# Altium schematic symbol library PW Components.SchLib: 317 symbols (part 3 of 3)
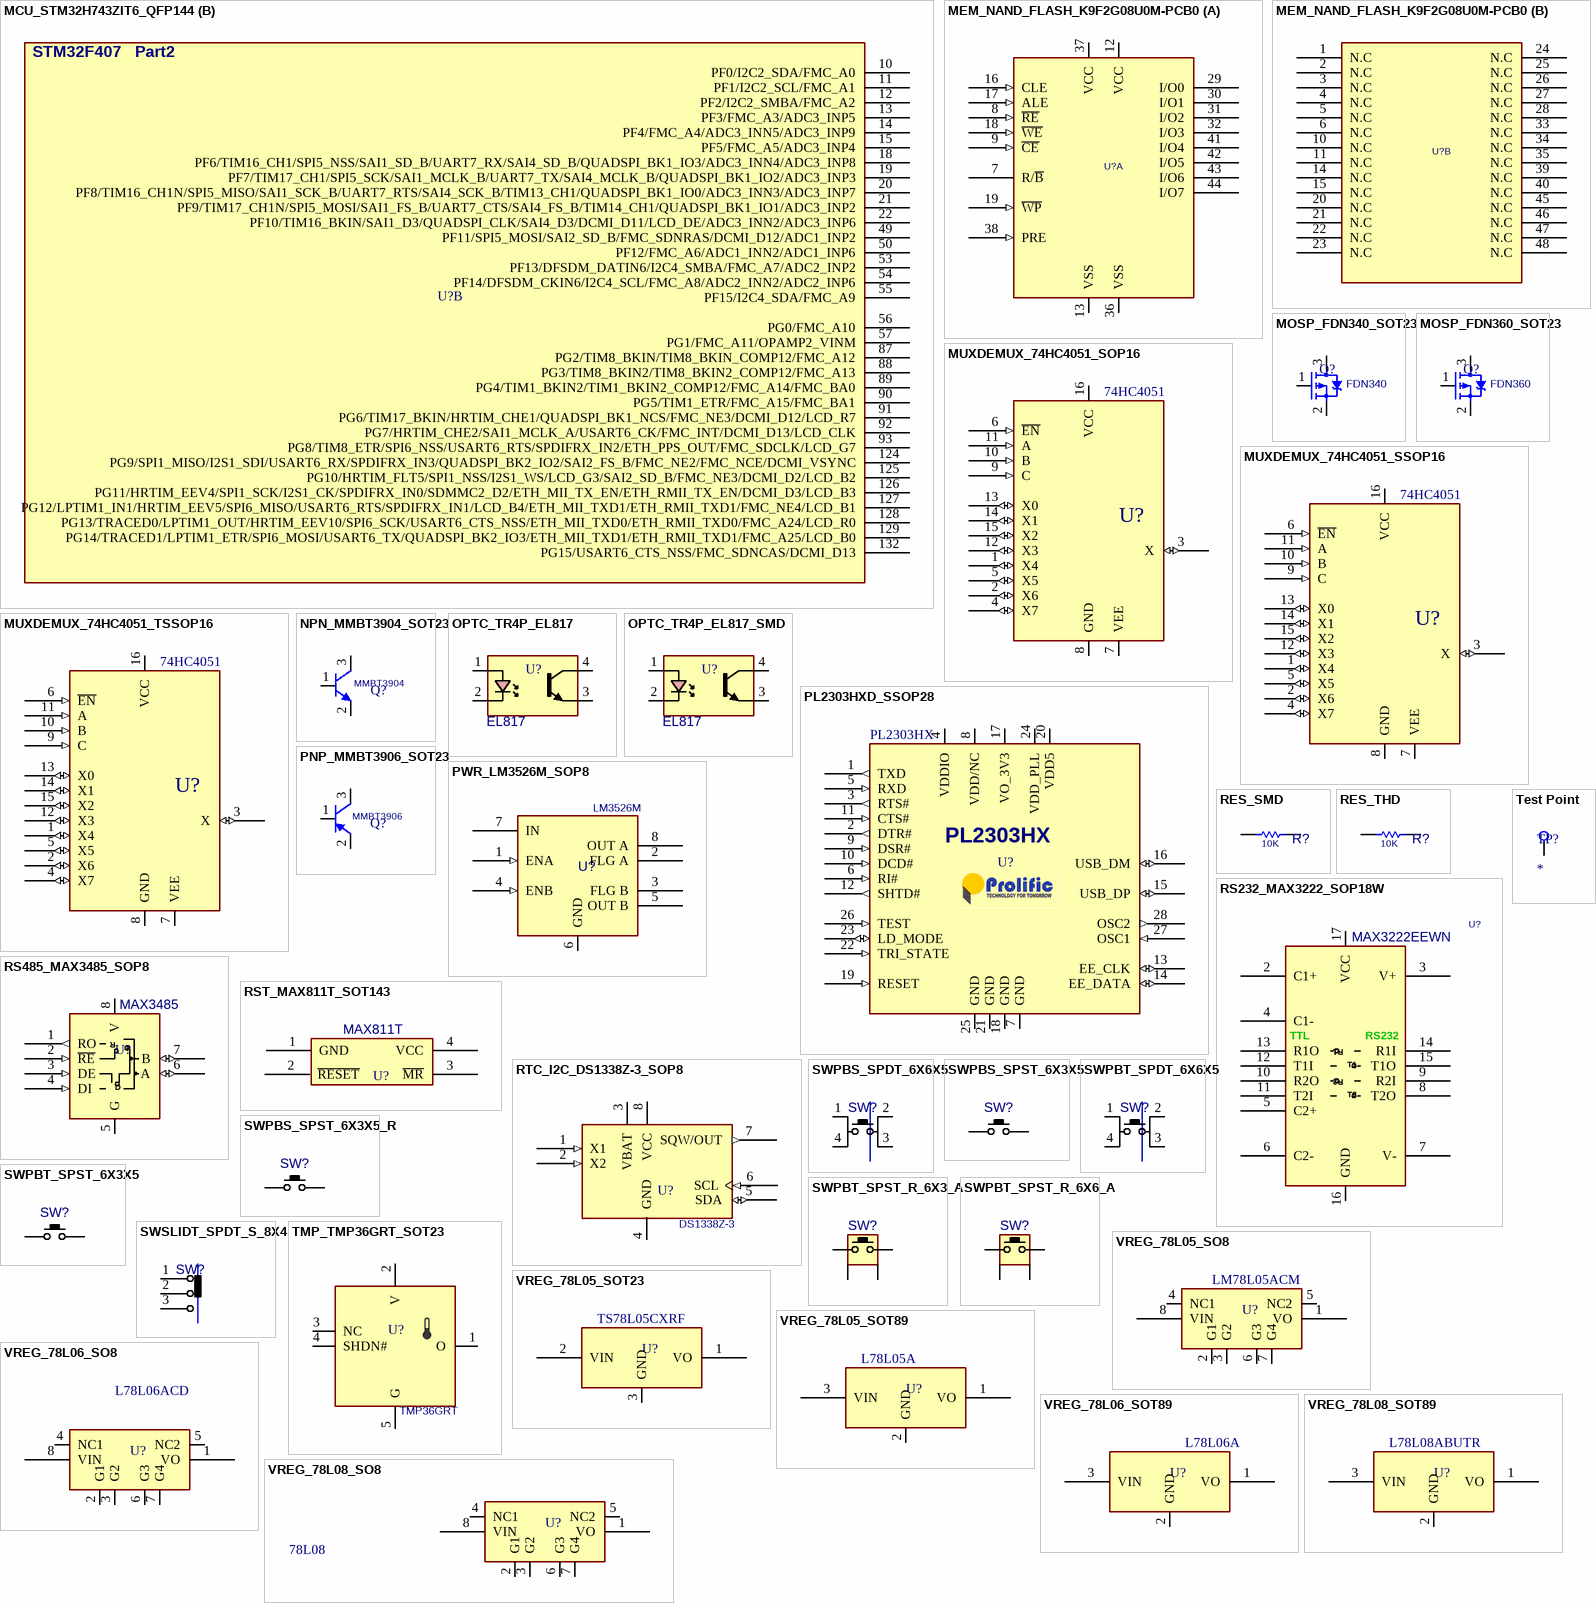
[diagram p16: symbols MCU_STM32H743ZIT6_QFP144 to VREG_78L08_SOT89]

## MCU_STM32H743ZIT6_QFP144
designator U?, comment STM32H743  (value not drawn)
MCU, STM32 ARM 32-bit, Cortex M7, 2MB FLASH, 1MB SRAM; DESC: USB_OTG HS/FS, Ethernet, 3 ADCs, DAC, CAN, I2C, SPI, UART, camera, LCD; MANF: ST; MANF_P#: STM32H743ZIT6; PARAM2: 2~3.6VCC, 400MHz, 3X16Bit 4.5MSPS ADC, 2X12Bit 1MHz DAC; PARAM: 2MB FLASH, 1MB SRAM, -40~105oC; PRICE: 23$; VALUE: STM32H743
footprint QFG50_144 (LQFP144, TQFP144, A144 (Cypress), HT144/TQ144 TQG144 (Xilinx), MS-026, MO-136(JEDEC), LQFP PGE, 20X20mm, Pitch 0.50mm, HT144, HTG144)
part A pins: 1 PE2/TRACECLK/SAI1_CK1/SPI4_SCK/SAI1_MCLK_A/SAI4_MCLK_A/QUADSPI_BK1_IO2/SAI4_CK1/ETH_MII_TXD3/FMC_A23, 2 PE3/TRACED0/TIM15_BKIN/SAI1_SD_B/SAI4_SD_B/FMC_A19, 3 PE4/TRACED1/SAI1_D2/DFSDM_DATIN3/TIM15_CH1N/SPI4_NSS/SAI1_FS_A/SAI4_FS_A/SAI4_D2/FMC_A20/DCMI_D4/LCD_B0, 4 PE5/TRACED2/SAI1_CK2/DFSDM_CKIN3/TIM15_CH1/SPI4_MISO/SAI1_SCK_A/SAI4_SCK_A/SAI4_CK2/FMC_A21/DCMI_D6/LCD_G0, 5 PE6/TRACED3/TIM1_BKIN2/SAI1_D1/TIM15_CH2/SPI4_MOSI/SAI1_SD_A/SAI4_SD_A/SAI4_D1/SAI2_MCK_B/TIM1_BKIN2_COMP12/FMC_A22/DCMI_D7/LCD_G1, 6 VBAT, 7 PC13/RTC_TAMP_1/RTC_TS/WKUP2, 8 OSC32_IN, 9 PC15/OSC32_OUT, 16 VSS, 17 VDD, 23 PH0/OSC_IN, 24 PH1/OSC_OUT, 25 NRST, 26 PC0/SAI2_FS_B/OTG_HS_ULPI_STP/FMC_SDNWE/LCD_R5/ADC123_INP10, 27 PC1/TRACED0/SAI1_D1/DFSDM_DATIN0/DFSDM_CKIN4/SPI2_MOSI/I2S2_SDO/SAI1_SD_A/SAI4_SD_A/SDMMC2_CK/SAI4_D1/ETH_MDC/MDIOS_MDC/ADC123_INN10/ADC123_INP11/RTC_TAMP_3/WKUP5, 28 DFSDM_CKIN1/SPI2_MISO/I2S2_SDI/DFSDM_CKOUT/OTG_HS_ULPI_DIR/ETH_MII_TXD2/FMC_SDNE0/ADC123_INN11/ADC123_INP12, 29 DFSDM_DATIN1/SPI2_MOSI/I2S2_SDO/OTG_HS_ULPI_NXT/ETH_MII_TX_CLK/FMC_SDCKE0/ADC12_INN12/ADC12_INP13, 30 VDD, 31 VSSA, 32 VREF+, 33 VDDA, 34 PA0/TIM2_CH1/TIM2_ETR/TIM5_CH1/TIM8_ETR/TIM15_BKIN/USART2_CTS_NSS/UART4_TX/SDMMC2_CMD/SAI2_SD_B/ETH_MII_CRS/ADC1_INP16/WKUP0, 35 PA1/TIM2_CH2/TIM5_CH2/LPTIM3_OUT/TIM15_CH1N/USART2_RTS/UART4_RX/QUADSPI_BK1_IO3/SAI2_MCK_B/ETH_MII_RX_CLK/ETH_RMII_REF_CLK/LCD_R2/ADC1_INN16/ADC1_INP17, 36 PA2/TIM2_CH3/TIM5_CH3/LPTIM4_OUT/TIM15_CH1/USART2_TX/SAI2_SCK_B/ETH_MDIO/MDIOS_MDIO/LCD_R1/ADC12_INP14/WKUP1, 37 PA3/TIM2_CH4/TIM5_CH4/LPTIM5_OUT/TIM15_CH2/USART2_RX/LCD_B2/OTG_HS_ULPI_D0/ETH_MII_COL/LCD_B5/ADC12_INP15, 38 VSS, 39 VDD, 40 PA4/TIM5_ETR/SPI1_NSS/I2S1_WS/SPI3_NSS/I2S3_WS/USART2_CK/SPI6_NSS/OTG_HS_SOF/DCMI_HSYNC/LCD_VSYNC/ADC12_INP18/DAC1_OUT1, 41 PA5/TIM2_CH1/TIM2_ETR/TIM8_CH1N/SPI1_SCK/I2S1_CK/SPI6_SCK/OTG_HS_ULPI_CK/LCD_R4/ADC12_INN18/ADC12_INP19/DAC1_OUT2, 42 PA6/TIM1_BKIN/TIM3_CH1/TIM8_BKIN/SPI1_MISO/I2S1_SDI/SPI6_MISO/TIM13_CH1/TIM8_BKIN_COMP12/MDIOS_MDC/TIM1_BKIN_COMP12/DCMI_PIXCLK/LCD_G2/ADC12_INP3, 43 PA7/TIM1_CH1N/TIM3_CH2/TIM8_CH1N/SPI1_MOSI/I2S1_SDO/SPI6_MOSI/TIM14_CH1/ETH_MII_RX_DV/ETH_RMII_CRS_DV/FMC_SDNWE/ADC12_INN3/ADC12_INP7/OPAMP1_VINM, 44 PC4/DFSDM_CKIN2/I2S1_MCK/SPDIFRX_IN2/ETH_MII_RXD0/ETH_RMII_RXD0/FMC_SDNE0/ADC12_INP4/OPAMP1_VOUT/COMP_1_INM, 45 PC5/SAI1_D3/DFSDM_DATIN2/SPDIFRX_IN3/SAI4_D3/ETH_MII_RXD1/ETH_RMII_RXD1/FMC_SDCKE0/COMP_1_OUT/ADC12_INN4/ADC12_INP8/OPAMP1_VINM, 46 PB0/TIM1_CH2N/TIM3_CH3/TIM8_CH2N/DFSDM_CKOUT/UART4_CTS/LCD_R3/OTG_HS_ULPI_D1/ETH_MII_RXD2/LCD_G1/ADC12_INN5/ADC12_INP9/OPAMP1_VINP/COMP_1_INP, 47 PB1/TIM1_CH3N/TIM3_CH4/TIM8_CH3N/DFSDM_DATIN1/LCD_R6/OTG_HS_ULPI_D2/ETH_MII_RXD3/LCD_G0/ADC12_INP5/COMP_1_INM, 48 PB2/SAI1_D1/DFSDM_CKIN1/SAI1_SD_A/SPI3_MOSI/I2S3_SDO/SAI4_SD_A/QUADSPI_CLK/SAI4_D1/COMP_1_INP/RTC_OUT, 51 VSS, 52 VDD, 58 PE7/TIM1_ETR/DFSDM_DATIN2/UART7_RX/QUADSPI_BK2_IO0/FMC_D4/FMC_DA4/OPAMP2_VOUT/COMP_2_INM, 59 PE8/TIM1_CH1N/DFSDM_CKIN2/UART7_TX/QUADSPI_BK2_IO1/FMC_D5/FMC_DA5/COMP_2_OUT/OPAMP2_VINM, 60 PE9/TIM1_CH1/DFSDM_CKOUT/UART7_RTS/QUADSPI_BK2_IO2/FMC_D6/FMC_DA6/OPAMP2_VINP/COMP_2_INP, 61 VSS, 62 VDD, 63 PE10/TIM1_CH2N/DFSDM_DATIN4/UART7_CTS/QUADSPI_BK2_IO3/FMC_D7/FMC_DA7/COMP_2_INM, 64 PE11/TIM1_CH2/DFSDM_CKIN4/SPI4_NSS/SAI2_SD_B/FMC_D8/FMC_DA8/LCD_G3/COMP_2_INP, 65 PE12/TIM1_CH3N/DFSDM_DATIN5/SPI4_SCK/SAI2_SCK_B/FMC_D9/FMC_DA9/COMP_1_OUT/LCD_B4, 66 PE13/TIM1_CH3/DFSDM_CKIN5/SPI4_MISO/SAI2_FS_B/FMC_D10/FMC_DA10/COMP_2_OUT/LCD_DE, 67 PE14/TIM1_CH4/SPI4_MOSI/SAI2_MCK_B/FMC_D11/FMC_DA11/LCD_CLK, 68 PE15/TIM1_BKIN/HDMI__TIM1_BKIN/FMC_D12/FMC_DA12/TIM1_BKIN_COMP12/LCD_R7, 69 PB10/TIM2_CH3/HRTIM_SCOUT/LPTIM2_IN1/I2C2_SCL/SPI2_SCK/I2S2_CK/DFSDM_DATIN7/USART3_TX/QUADSPI_BK1_NCS/OTG_HS_ULPI_D3/ETH_MII_RX_ER/LCD_G4, 70 PB11/TIM2_CH4/HRTIM_SCIN/LPTIM2_ETR/I2C2_SDA/DFSDM_CKIN7/USART3_RX/OTG_HS_ULPI_D4/ETH_MII_TX_EN/ETH_RMII_TX_EN/LCD_G5, 71 VCAP_1, 72 VDD, 73 PB12/TIM1_BKIN/I2C2_SMBA/SPI2_NSS/I2S2_WS/DFSDM_DATIN1/USART3_CK/FDCAN2_RX/OTG_HS_ULPI_D5/ETH_MII_TXD0/ETH_RMII_TXD0/OTG_HS_ID/TIM1_BKIN_COMP12/UART5_RX, 74 PB13/TIM1_CH1N/LPTIM2_OUT/SPI2_SCK/I2S2_CK/DFSDM_CKIN1/USART3_CTS_NSS/FDCAN2_TX/OTG_HS_ULPI_D6/ETH_MII_TXD1/ETH_RMII_TXD1/UART5_TX/OTG_HS_VBUS, 75 PB14/TIM1_CH2N/TIM12_CH1/TIM8_CH2N/USART1_TX/SPI2_MISO/I2S2_SDI/DFSDM_DATIN2/USART3_RTS/UART4_RTS/SDMMC2_D0/OTG_HS_DM, 76 PB15/RTC_REFIN/TIM1_CH3N/TIM12_CH2/TIM8_CH3N/USART1_RX/SPI2_MOSI/I2S2_SDO/DFSDM_CKIN2/UART4_CTS/SDMMC2_D1/OTG_HS_DP, 77 PD8/DFSDM_CKIN3/SAI3_SCK_B/USART3_TX/SPDIFRX_IN1/FMC_D13/FMC_DA13, 78 PD9/DFSDM_DATIN3/SAI3_SD_B/USART3_RX/FDCAN2_RXFD_MODE/FMC_D14/FMC_DA14, 79 PD10/DFSDM_CKOUT/SAI3_FS_B/USART3_CK/FDCAN2_TXFD_MODE/FMC_D15/FMC_DA15/LCD_B3, 80 PD11/LPTIM2_IN2/I2C4_SMBA/USART3_CTS_NSS/QUADSPI_BK1_IO0/SAI2_SD_A/FMC_A16, 81 PD12/LPTIM1_IN1/TIM4_CH1/LPTIM2_IN1/I2C4_SCL/USART3_RTS/QUADSPI_BK1_IO1/SAI2_FS_A/FMC_A17, 82 PD13/LPTIM1_OUT/TIM4_CH2/I2C4_SDA/QUADSPI_BK1_IO3/SAI2_SCK_A/FMC_A18, 83 VSS, 84 VDD, 85 PD14/TIM4_CH3/SAI3_MCLK_B/UART8_CTS/FMC_D0/FMC_DA0, 86 PD15/TIM4_CH4/SAI3_MCLK_A/UART8_RTS/FMC_D1/FMC_DA1, 94 VSS, 95 VDD33USB, 96 PC6/HRTIM_CHA1/TIM3_CH1/TIM8_CH1/DFSDM_CKIN3/I2S2_MCK/USART6_TX/SDMMC1_D0DIR/FMC_NWAIT/SDMMC2_D6/SDMMC1_D6/DCMI_D0/LCD_HSYNC/SWPMI_IO, 97 PC7/TRGIO/HRTIM_CHA2/TIM3_CH2/TIM8_CH2/DFSDM_DATIN3/I2S3_MCK/USART6_RX/SDMMC1_D123DIR/FMC_NE1/SDMMC2_D7/SWPMI_TX/SDMMC1_D7/DCMI_D1/LCD_G6, 98 PC8/TRACED1/HRTIM_CHB1/TIM3_CH3/TIM8_CH3/USART6_CK/UART5_RTS/FMC_NE2/FMC_NCE/SWPMI_RX/SDMMC1_D0/DCMI_D2, 99 PC9/MCO2/TIM3_CH4/TIM8_CH4/I2C3_SDA/I2S_CKIN/UART5_CTS/QUADSPI_BK1_IO0/LCD_G3/SWPMI_SUSPEND/SDMMC1_D1/DCMI_D3/LCD_B2, 100 PA8/MCO1/TIM1_CH1/HRTIM_CHB2/TIM8_BKIN2/I2C3_SCL/USART1_CK/OTG_FS_SOF/UART7_RX/TIM8_BKIN2_COMP12/LCD_B3/LCD_R6, 101 PA9/TIM1_CH2/HRTIM_CHC1/LPUART1_TX/I2C3_SMBA/SPI2_SCK/I2S2_CK/USART1_TX/FDCAN1_RXFD_MODE/DCMI_D0/LCD_R5/OTG_FS_VBUS, 102 PA10/TIM1_CH3/HRTIM_CHC2/LPUART1_RX/USART1_RX/FDCAN1_TXFD_MODE/OTG_FS_ID/MDIOS_MDIO/LCD_B4/DCMI_D1/LCD_B1, 103 PA11/TIM1_CH4/HRTIM_CHD1/LPUART1_CTS/SPI2_NSS/I2S2_WS/UART4_RX/USART1_CTS_NSS/FDCAN1_RX/OTG_FS_DM/LCD_R4, 104 PA12/TIM1_ETR/HRTIM_CHD2/LPUART1_RTS/SPI2_SCK/I2S2_CK/UART4_TX/USART1_RTS/SAI2_FS_B/FDCAN1_TX/OTG_FS_DP/LCD_R5, 105 PA13/JTMS/SWDIO, 106 VCAP_2, 107 VSS, 108 VDD, 109 PA14/JTCK/SWCLK, 110 PA15/JTDI/TIM2_CH1/TIM2_ETR/HRTIM_FLT1/HDMI_CEC/SPI1_NSS/I2S1_WS/SPI3_NSS/I2S3_WS/SPI6_NSS/UART4_RTS/UART7_TX, 111 PC10/HRTIM_EEV1/DFSDM_CKIN5/SPI3_SCK/I2S3_CK/USART3_TX/UART4_TX/QUADSPI_BK1_IO1/SDMMC1_D2/DCMI_D8/LCD_R2, 112 PC11/HRTIM_FLT2/DFSDM_DATIN5/SPI3_MISO/I2S3_SDI/USART3_RX/UART4_RX/QUADSPI_BK2_NCS/SDMMC1_D3/DCMI_D4, 113 PC12/TRACED3/HRTIM_EEV2/SPI3_MOSI/I2S3_SDO/USART3_CK/UART5_TX/SDMMC1_CK/DCMI_D9, 114 PD0/DFSDM_CKIN6/SAI3_SCK_A/UART4_RX/FDCAN1_RX/FMC_D2/FMC_DA2, 115 PD1/DFSDM_DATIN6/SAI3_SD_A/UART4_TX/FDCAN1_TX/FMC_D3/FMC_DA3, 116 PD2/TRACED2/TIM3_ETR/UART5_RX/SDMMC1_CMD/DCMI_D11, 117 PD3/DFSDM_CKOUT/SPI2_SCK/I2S2_CK/USART2_CTS_NSS/FMC_CLK/DCMI_D5/LCD_G7, 118 PD4/HRTIM_FLT3/SAI3_FS_A/USART2_RTS/FDCAN1_RXFD_MODE/FMC_NOE, 119 PD5/HRTIM_EEV3/USART2_TX/FDCAN1_TXFD_MODE/FMC_NWE, 120 VSS, 121 VDD, 122 PD6/SAI1_D1/DFSDM_CKIN4/DFSDM_DATIN1/SPI3_MOSI/I2S3_SDO/SAI1_SD_A/USART2_RX/SAI4_SD_A/FDCAN2_RXFD_MODE/SAI4_D1/SDMMC2_CK/FMC_NWAIT/DCMI_D10/LCD_B2, 123 PD7/DFSDM_DATIN4/SPI1_MOSI/I2S1_SDO/DFSDM_CKIN1/USART2_CK/SPDIFRX_IN0/SDMMC2_CMD/FMC_NE1, 130 VSS, 131 VDD, 133 PB3/JTDO/TRACESWO/TIM2_CH2/HRTIM_FLT4/SPI1_SCK/I2S1_CK/SPI3_SCK/I2S3_CK/SPI6_SCK/SDMMC2_D2/UART7_RX, 134 PB4/NJTRST/TIM16_BKIN/TIM3_CH1/HRTIM_EEV6/SPI1_MISO/I2S1_SDI/SPI3_MISO/I2S3_SDI/SPI2_NSS/I2S2_WS/SPI6_MISO/SDMMC2_D3/UART7_TX, 135 PB5/TIM17_BKIN/TIM3_CH2/HRTIM_EEV7/I2C1_SMBA/SPI1_MOSI/I2S1_SDO/I2C4_SMBA/SPI3_MOSI/I2S3_SDO/SPI6_MOSI/FDCAN2_RX/OTG_HS_ULPI_D7/ETH_PPS_OUT/FMC_SDCKE1/DCMI_D10/UART5_RX, 136 PB6/TIM16_CH1N/TIM4_CH1/HRTIM_EEV8/I2C1_SCL/HDMI_CEC/I2C4_SCL/USART1_TX/LPUART1_TX/FDCAN2_TX/QUADSPI_BK1_NCS/DFSDM_DATIN5/FMC_SDNE1/DCMI_D5/UART5_TX, 137 PB7/TIM17_CH1N/TIM4_CH2/HRTIM_EEV9/I2C1_SDA/I2C4_SDA/USART1_RX/LPUART1_RX/FDCAN2_TXFD_MODE/DFSDM_CKIN5/FMC_NL/DCMI_VSYNC/PVD_IN, 138 BOOT0/VPP, 139 PB8/TIM16_CH1/TIM4_CH3/DFSDM_CKIN7/I2C1_SCL/I2C4_SCL/SDMMC1_CKIN/UART4_RX/FDCAN1_RX/SDMMC2_D4/ETH_MII_TXD3/SDMMC1_D4/DCMI_D6/LCD_B6, 140 PB9/TIM17_CH1/TIM4_CH4/DFSDM_DATIN7/I2C1_SDA/SPI2_NSS/I2S2_WS/I2C4_SDA/SDMMC1_CDIR/UART4_TX/FDCAN1_TX/SDMMC2_D5/I2C4_SMBA/SDMMC1_D5/DCMI_D7/LCD_B7, 141 PE0/LPTIM1_ETR/TIM4_ETR/HRTIM_SCIN/LPTIM2_ETR/UART8_RX/FDCAN1_RXFD_MODE/SAI2_MCK_A/FMC_NBL0/DCMI_D2, 142 PE1/LPTIM1_IN2/HRTIM_SCOUT/UART8_TX/FDCAN1_TXFD_MODE/FMC_NBL1/DCMI_D3, 143 PDR_ON, 144 VDD
part B pins: 10 PF0/I2C2_SDA/FMC_A0, 11 PF1/I2C2_SCL/FMC_A1, 12 PF2/I2C2_SMBA/FMC_A2, 13 PF3/FMC_A3/ADC3_INP5, 14 PF4/FMC_A4/ADC3_INN5/ADC3_INP9, 15 PF5/FMC_A5/ADC3_INP4, 18 PF6/TIM16_CH1/SPI5_NSS/SAI1_SD_B/UART7_RX/SAI4_SD_B/QUADSPI_BK1_IO3/ADC3_INN4/ADC3_INP8, 19 PF7/TIM17_CH1/SPI5_SCK/SAI1_MCLK_B/UART7_TX/SAI4_MCLK_B/QUADSPI_BK1_IO2/ADC3_INP3, 20 PF8/TIM16_CH1N/SPI5_MISO/SAI1_SCK_B/UART7_RTS/SAI4_SCK_B/TIM13_CH1/QUADSPI_BK1_IO0/ADC3_INN3/ADC3_INP7, 21 PF9/TIM17_CH1N/SPI5_MOSI/SAI1_FS_B/UART7_CTS/SAI4_FS_B/TIM14_CH1/QUADSPI_BK1_IO1/ADC3_INP2, 22 PF10/TIM16_BKIN/SAI1_D3/QUADSPI_CLK/SAI4_D3/DCMI_D11/LCD_DE/ADC3_INN2/ADC3_INP6, 49 PF11/SPI5_MOSI/SAI2_SD_B/FMC_SDNRAS/DCMI_D12/ADC1_INP2, 50 PF12/FMC_A6/ADC1_INN2/ADC1_INP6, 53 PF13/DFSDM_DATIN6/I2C4_SMBA/FMC_A7/ADC2_INP2, 54 PF14/DFSDM_CKIN6/I2C4_SCL/FMC_A8/ADC2_INN2/ADC2_INP6, 55 PF15/I2C4_SDA/FMC_A9, 56 PG0/FMC_A10, 57 PG1/FMC_A11/OPAMP2_VINM, 87 PG2/TIM8_BKIN/TIM8_BKIN_COMP12/FMC_A12, 88 PG3/TIM8_BKIN2/TIM8_BKIN2_COMP12/FMC_A13, 89 PG4/TIM1_BKIN2/TIM1_BKIN2_COMP12/FMC_A14/FMC_BA0, 90 PG5/TIM1_ETR/FMC_A15/FMC_BA1, 91 PG6/TIM17_BKIN/HRTIM_CHE1/QUADSPI_BK1_NCS/FMC_NE3/DCMI_D12/LCD_R7, 92 PG7/HRTIM_CHE2/SAI1_MCLK_A/USART6_CK/FMC_INT/DCMI_D13/LCD_CLK, 93 PG8/TIM8_ETR/SPI6_NSS/USART6_RTS/SPDIFRX_IN2/ETH_PPS_OUT/FMC_SDCLK/LCD_G7, 124 PG9/SPI1_MISO/I2S1_SDI/USART6_RX/SPDIFRX_IN3/QUADSPI_BK2_IO2/SAI2_FS_B/FMC_NE2/FMC_NCE/DCMI_VSYNC, 125 PG10/HRTIM_FLT5/SPI1_NSS/I2S1_WS/LCD_G3/SAI2_SD_B/FMC_NE3/DCMI_D2/LCD_B2, 126 PG11/HRTIM_EEV4/SPI1_SCK/I2S1_CK/SPDIFRX_IN0/SDMMC2_D2/ETH_MII_TX_EN/ETH_RMII_TX_EN/DCMI_D3/LCD_B3, 127 PG12/LPTIM1_IN1/HRTIM_EEV5/SPI6_MISO/USART6_RTS/SPDIFRX_IN1/LCD_B4/ETH_MII_TXD1/ETH_RMII_TXD1/FMC_NE4/LCD_B1, 128 PG13/TRACED0/LPTIM1_OUT/HRTIM_EEV10/SPI6_SCK/USART6_CTS_NSS/ETH_MII_TXD0/ETH_RMII_TXD0/FMC_A24/LCD_R0, 129 PG14/TRACED1/LPTIM1_ETR/SPI6_MOSI/USART6_TX/QUADSPI_BK2_IO3/ETH_MII_TXD1/ETH_RMII_TXD1/FMC_A25/LCD_B0, 132 PG15/USART6_CTS_NSS/FMC_SDNCAS/DCMI_D13
part A text: STM32H743   Part1
part B text: STM32F407   Part2

## MEM_NAND_FLASH_K9F2G08U0M-PCB0
designator U?
Parallel NAND Flash, 1Gbit (64K Pages, 2kB+64B/Page), 30ns, 2.7÷3.6V, -40÷85°C; PARAM2: 2.7~3.6V; MANF_P#: K9F2G08U0M-PCB0; MANF: SAMSUNG
part A pins: 7 R/~{B} (oc), 8 ~{RE} (in), 9 ~{CE} (in), 12 VCC (power), 13 VSS (power), 16 CLE (in), 17 ALE (in), 18 ~{WE} (in), 19 ~{WP} (in), 29 I/O0 (hiz), 30 I/O1 (hiz), 31 I/O2 (hiz), 32 I/O3 (hiz), 36 VSS (power), 37 VCC (power), 38 PRE (in), 41 I/O4 (hiz), 42 I/O5 (hiz), 43 I/O6 (hiz), 44 I/O7 (hiz)
part B pins: 1 N.C, 2 N.C, 3 N.C, 4 N.C, 5 N.C, 6 N.C, 10 N.C, 11 N.C, 14 N.C, 15 N.C, 20 N.C, 21 N.C, 22 N.C, 23 N.C, 24 N.C, 25 N.C, 26 N.C, 27 N.C, 28 N.C, 33 N.C, 34 N.C, 35 N.C, 39 N.C, 40 N.C, 45 N.C, 46 N.C, 47 N.C, 48 N.C
2 alternate drawings of the same symbol

## MOSP_FDN340_SOT23
designator Q?, comment FDN340
MOSFET SMD P-CH 20V 2A; MANF_P#: FDN360; ASSEMBLY: ASSEMBLY; VALUE: FDN340
footprint SOT23_3 (SOT-23, Micro3, MO-178, TO-236AB, MO-193C, SuperSOT3, SC-59, DSO190_3_300X150)
pins: 1 D, 2 S, 3 D

## MOSP_FDN360_SOT23
designator Q?, comment FDN360
MOSFET SMD P-CH 30V 2A; ASSEMBLY: ASSEMBLY; MANF_P#: FDN360; VALUE: FDN360
footprint SOT23_3 (SOT-23, Micro3, MO-178, TO-236AB, MO-193C, SuperSOT3, SC-59, DSO190_3_300X150)
pins: 1 D, 2 S, 3 D

## MUXDEMUX_74HC4051_SOP16
designator U?, comment 74HC4051
IC, MUX/DEMUX, 8:1 , analog; MANF: NXP; MANF_P#: 74HC4051D; PARAM2: 2~4.5VCC, -5~+5V; PARAM: 80/70/60 Ohm, -40~125°C; PRICE: -; VALUE: 74HC4051
footprint SO_16 (SOP, SOIC, 3.9mm width, 1.27mm pitch,)
pins: 1 X4 (io), 2 X6 (io), 3 X (io), 4 X7 (io), 5 X5 (io), 6 ~{EN} (in), 7 VEE (power), 8 GND (power), 9 C (in), 10 B (in), 11 A (in), 12 X3 (io), 13 X0 (io), 14 X1 (io), 15 X2 (io), 16 VCC (power)

## MUXDEMUX_74HC4051_SSOP16
designator U?, comment 74HC4051
IC, MUX/DEMUX, 8:1 , analog; MANF: NXP; MANF_P#: 74HC4051DB; PARAM2: 2~4.5VCC, -5~+5V; PARAM: 80/70/60 Ohm, -40~125°C; PRICE: -; VALUE: 74HC4051
footprint SOG65_16_W (SSOP16, SOT338-1, SOT403-1, RU-16, pitch: 0.65mm, 6x5.3mm, GN16, MO-150AC)
pins: 1 X4 (io), 2 X6 (io), 3 X (io), 4 X7 (io), 5 X5 (io), 6 ~{EN} (in), 7 VEE (power), 8 GND (power), 9 C (in), 10 B (in), 11 A (in), 12 X3 (io), 13 X0 (io), 14 X1 (io), 15 X2 (io), 16 VCC (power)

## MUXDEMUX_74HC4051_TSSOP16
designator U?, comment 74HC4051
IC, MUX/DEMUX, 8:1 , analog; MANF: NXP; MANF_P#: 74HC4051PW; PARAM2: 2~4.5VCC, -5~+5V; PARAM: 80/70/60 Ohm, -40~125°C; PRICE: -; VALUE: 74HC4051
footprint SOG65_16 (PW TSSOP (TI), MO-153-AB (JEDEC), 16Lead, pitch: 0.65mm, 5x4.4x1.2mm)
pins: 1 X4 (io), 2 X6 (io), 3 X (io), 4 X7 (io), 5 X5 (io), 6 ~{EN} (in), 7 VEE (power), 8 GND (power), 9 C (in), 10 B (in), 11 A (in), 12 X3 (io), 13 X0 (io), 14 X1 (io), 15 X2 (io), 16 VCC (power)

## NPN_MMBT3904_SOT23
designator Q?, comment MMBT3904
BJT, NPN, 40v, 0.2A, SMD, SOT23; PARAM2: 250mW; MANF: Diodes, NXP, FAIRCHILD, ON; PARAM: 40v, 0.2A; MANF_P#: MMBT3904; VALUE: MMBT3904
footprint SOT23_3 (SOT-23, Micro3, MO-178, TO-236AB, MO-193C, SuperSOT3, SC-59, DSO190_3_300X150)
simulation model NS3904
pins: 1 B, 2 E, 3 C

## OPTC_TR4P_EL817
designator U?, comment EL817
OPTOCOUPLER, TRANSISTOR, 4PIN; PARAM: IF=5mA; PARAM2: VCE = 5V; PRICE: 300t@Paya; VALUE: EL817
footprint DIP_4 (BRIDGE DIODE, DIP, pitch 2.54mm, 300mil Width)
pins: 1 A "Anode", 2 K "Cathode", 3 E "Emitter", 4 C "Collector"

## OPTC_TR4P_EL817_SMD
designator U?, comment EL817
OPTOCOUPLER, TRANSISTOR, 4PIN; PARAM: IF=5mA; PARAM2: VCE = 5V; PRICE: 300t@Paya; VALUE: EL817
footprint DIP_4SMD (DIP4, pitch 2.54mm, 300mil Width SMD)
pins: 1 A "Anode", 2 K "Cathode", 3 E "Emitter", 4 C "Collector"

## PL2303HXD_SSOP28
designator U?, comment PL2303HX
USB RS232 Bridge Controller, SSOP-28; MANF: Prolific; MANF_P#: PL2303TA, PL2303HX, PL2303HXD, PL2303HXA; PRICE: 4000~6000t @PAYA or ECA; Value: PL2303HX
footprint SOG65_28_W (SOP, 28-Leads, Body 10.6x5.6mm (max), Pitch 0.65mm)
pins: 1 TXD (out), 2 DTR# (out), 3 RTS# (out), 4 VDDIO (power), 5 RXD (in), 6 RI# (in), 7 GND (power), 8 VDD/NC (power), 9 DSR# (in), 10 DCD# (in), 11 CTS# (in), 12 SHTD# (out), 13 EE_CLK (io), 14 EE_DATA (io), 15 USB_DP (io), 16 USB_DM (io), 17 VO_3V3 (power), 18 GND (power), 19 RESET (in), 20 VDD5 (power), 21 GND (power), 22 TRI_STATE (in), 23 LD_MODE (io), 24 VDD_PLL (power), 25 GND (power), 26 TEST (in), 27 OSC1 (in), 28 OSC2 (out)

## PNP_MMBT3906_SOT23
designator Q?, comment MMBT3906
BJT, PNP, 40v, 0.2A, SMD, SOT23; PARAM2: 250mW; MANF: Diodes, NXP, FAIRCHILD, ON; PARAM: 40v, 0.2A; MANF_P#: MMBT3906; VALUE: MMBT3906
footprint SOT23_3 (SOT-23, Micro3, MO-178, TO-236AB, MO-193C, SuperSOT3, SC-59, DSO190_3_300X150)
simulation model NS3904
pins: 1 B, 2 E, 3 C

## PWR_LM3526M_SOP8
designator U?, comment LM3526M
LOAD SW, Dual Port USB, Over-Current Protection; MANF: TI; MANF_P#: LM3526M-L, LM3526M-H; VALUE: LM3526M
footprint SO_8 (SOP-8, 5x3.9mm body 1.27mm pitch, SOT96-1, M08A, S8, SOIC8, VO8, MS-012AA(JEDEC), R-8, 8S2, VOG8)
pins: 1 ENA (in), 2 FLG A (oc), 3 FLG B (oc), 4 ENB (in), 5 OUT B (power), 6 GND (power), 7 IN (power), 8 OUT A (power)

## RES_SMD
designator R?, comment 10K
RESISTOR, SMD; MANF_P#: RK73H1ETTP4701F; MANF: KOA SPEER; PARAM: 0.063W; DESC: DESCRIPTION; DIST#: MOUSER; PARAM2: 1%; ASSEMBLY: ASSEMBLY; PRICE: 100= 0.5$; VALUE: 10K
footprint R0402 (CHIP Resistor 1/16 WATT, 1.0X0.5mm, 0402, 1005)
footprint R0603 (CHIP Resistor 1/10 WATT, 1.6x0.8mm, 0603, 1608)
footprint R0805 (CHIP RESISTOR 1/8 WATT ,2.0X1.3mm, 0805, 2012)
footprint R1206 (CHIP RESISTOR 1/4 WATT, Body 3.2x1.6mm,1206, 3216)
footprint R2512 (CHIP RESISTOR 1 WATT, 6.4X3.2mm, 2512, 6432)
footprint R2010 (CHIP RESISTOR 3/4 WATT, 5.1x3mm, 2010, 5025)
footprint R1210 (CHIP RESISTOR 1/2 WATT, Body 3.2x2.5mm,1210, 3225)
pins: 1, 2

## RES_THD
designator R?, comment 10K
RESISTOR, THD; MANF_P#: RK73H1ETTP4701F; MANF: KOA SPEER; PARAM: 0.063W; DESC: DESCRIPTION; DIST#: MOUSER; PARAM2: 1%; ASSEMBLY: ASSEMBLY; PRICE: 100= 0.5$; VALUE: 10K
footprint R0125W_AX025 (RESISTOR 1/8 WATT, AXIAL0.25)
footprint R1W_AX06 (RESISTOR 1 WATT, AXIAL0.6)
footprint R2W_AX08 (RESISTOR 2 WATT, AXIAL0.8)
footprint R2W_AX_VER (RESISTOR 2 WATT, AXIAL0.8)
footprint R3W_AX09 (RESISTOR 3 WATT, AXIAL0.9)
footprint R4W_AX10 (RESISTOR 4 WATT, AXIAL1.0)
footprint R05W_AX05 (RESISTOR 0.5 WATT, AXIAL0.5)
footprint R5W_AX11 (RESISTOR 5 WATT, AXIAL1.1)
footprint R5W_VER (RESISTOR 5 WATT, AXIAL1.1)
footprint R025W_AX04 (RESISTOR 1/4 WATT, AXIAL0.4)
footprint R025W_AX_VER (RESISTOR 1/4 WATT, AXIAL0.4)
footprint R0125W_AX03 (RESISTOR 1/8 WATT, AXIAL0.3 INCH SPACING)
footprint R0125W_AX_VER (RESISTOR 1/8 WATT, AXIAL0.25)
footprint RWW2W_VER (RESISTOR 2 WATT, Wirewound)
footprint RWW10W_VER (RESISTOR 10 WATT, Wirewound)
footprint R10W_AX11 (RESISTOR 10 WATT, AXIAL1.1)
footprint R10W_AX14 (RESISTOR 10 WATT, AXIAL1.4)
footprint R10W_AX20 (RESISTOR 10 WATT, AXIAL2.0)
footprint RWW5W (Footprint not found)
footprint RWW5W_VER (Footprint not found)
pins: 1, 2

## RS232_MAX3222_SOP18W
designator U?, comment MAX3222EEWN
RS-232, DUAL, +3~5V, Driver/Receiver, Low-Power, up to 1Mbps, Using Four 0.1µF External Capacitor; MANF_PART#: MAX3232ECWE+; MANF: Maxim Integrated; PARAM2: +3~5.5V; PARAM: PARAM; VALUE: MAX3222EEWN
footprint SO_18 (SOP, SOIC, 3.9mm width, 1.27mm pitch,)
footprint SO_18_W (SOP, SOIC, 7.5mm width, 1.27mm pitch,)
pins: 2 C1+, 3 V+, 4 C1-, 5 C2+, 6 C2-, 7 V-, 8 T2O, 9 R2I, 10 R2O, 11 T2I, 12 T1I, 13 R1O, 14 R1I, 15 T1O, 16 GND (power), 17 VCC (power)
text: TTL; RS232; R1; R2; T1; T2

## RS485_MAX3485_SOP8
designator U?, comment MAX3485
RS485 Transceiver, 5V, SOP-8, ±7V Ground Difference Between Devices on the Bus; MANF_P#: MAX485ESA; MANF: Maxim Integrated; PRICE: 700toman@PAYA; VALUE: MAX3485
footprint SO_8
pins: 1 RO (out), 2 ~{RE} (in), 3 DE (in), 4 DI (in), 5 G, 6 A (io), 7 B (io), 8 V
text: R; D

## RST_MAX811T_SOT143
designator U?, comment MAX811T
4-Pin µP Voltage Monitors with Manual Reset Input; MANF_P#: MAX485ESA; MANF: Maxim Integrated; PRICE: 700toman@PAYA; VALUE: MAX811T
footprint SOT143_4 (SC-74A , SOT143, TO-253A, DSO190_4_300X150, LAT-3/MMM168, MW-4)
pins: 1 GND, 2 ~{RESET}, 3 ~{MR}, 4 VCC

## RTC_I2C_DS1338Z-3_SOP8
designator U?, comment DS1338  (value not drawn)
Real-Time Clock, I2C; MANF: Maxim Integrated; MANF_P#: DS1338Z-3+; PARAM2: 2.7~5.5VCC, 1.3~3.7VBAT; PARAM: I2C, 56B, Batt, -40~85oC; VALUE: DS1338; PRICE: 3.4$
footprint SO_8 (SOP-8, 5x3.9mm body 1.27mm pitch, SOT96-1, M08A, S8, SOIC8, VO8, MS-012AA(JEDEC), R-8, 8S2, VOG8)
pins: 1 X1 (in), 2 X2 (in), 3 VBAT (power), 4 GND (power), 5 SDA (io), 6 SCL (in), 7 SQW/OUT (out), 8 VCC (power)
text: DS1338Z-3

## SWPBS_SPDT_6X6X5
designator SW?, comment PUSHBUTTON  (value not drawn)
SWITCH, PUSH BUTTON, TACTILE, SMD, SPDT, 6X6X5mm; DESC: DESCRIPTION; MANF: -; VALUE: PUSHBUTTON; ASSEMBLY: ASSEMBLY; PARAM: PARAM; PRICE: PRICE; MANF_P#: -
footprint SWPBS_SPDT_6X6X5 (SWITCH, PUSHBUTTON, SMD, SPDT, 6X6mm 4PIN)
pins: 1 P1, 2 P3, 3 P4, 4 P2

## SWPBS_SPST_6X3X5
designator SW?, comment PUSHBUTTON  (value not drawn)
SWITCH, PUSH BUTTON, TACTILE, SMD, SPST, 6X3.5X5mm; MANF: ALPS; DESC: DESCRIPTION; MANF_P#: SKQMBBE010; VALUE: PUSHBUTTON; ASSEMBLY: ASSEMBLY; PARAM: PARAM; PRICE: PRICE
footprint SWPBS_SPST_6X3X5 (SWITCH, PUSHBUTTON, SMD, SPST, 6X3.5mm, SKQMBBE010, 50000 Cycles, 1.57N Force)
pins: 1 P1, 2 P3

## SWPBS_SPST_6X3X5_R
designator SW?, comment PUSHBUTTON  (value not drawn)
SWITCH, PUSH BUTTON, TACTILE, SMD, SPST, 6X3.5X5mm RIGHT; DESC: DESCRIPTION; MANF: -; VALUE: PUSHBUTTON; ASSEMBLY: ASSEMBLY; PARAM: PARAM; PRICE: PRICE; MANF_P#: -
footprint SWPBS_SPST_6X3X5_R (SWITCH, PUSHBUTTON, SMD, SPST, RIGHT)
pins: 1 P1, 2 P3

## SWPBT_SPDT_6X6X5
designator SW?, comment PUSHBUTTON  (value not drawn)
SWITCH, PUSH BUTTON, TACTILE, THD, SPDT, 4X4MM; DESC: DESCRIPTION; MANF: -; VALUE: PUSHBUTTON; ASSEMBLY: ASSEMBLY; PARAM: PARAM; PRICE: PRICE; MANF_P#: -
footprint SWPBT_SPDT_6X6X5 (TACTILE SWITCH 6X6mm 4PIN PBTHD500_4_S600)
pins: 1 P1, 2 P3, 3 P4, 4 P2

## SWPBT_SPST_6X3X5
designator SW?, comment PUSHBUTTON  (value not drawn)
SWITCH, PUSH BUTTON, TACTILE, THD, SPST, 6X3.5X5mm; DESC: DESCRIPTION; MANF: -; VALUE: PUSHBUTTON; ASSEMBLY: ASSEMBLY; PARAM: PARAM; PRICE: PRICE; MANF_P#: -
footprint SWPBT_SPST_6X3X5 (TACTILE SWITCH 2PIN 6X3.5mm)
pins: 1, 2

## SWPBT_SPST_R_6X3_A
designator SW?, comment PUSHBUTTON  (value not drawn)
SWITCH, PUSH BUTTON, TACTILE, THD, SPST, RIGHT; MANF: Apem; PARAM: 50mA/12VDC/250VAC; DESC: DESCRIPTION; MANF_P#: MJTP1117; VALUE: PUSHBUTTON; ASSEMBLY: ASSEMBLY; PRICE: 0.45$
footprint SWPBT_SPST_R_6X3 (SWITCH, PUSHBUTTON, THD, SPST, 6X3mm;)
pins: 1, 2, MH1, MH2

## SWPBT_SPST_R_6X6_A
designator SW?, comment PUSHBUTTON  (value not drawn)
SWITCH, PUSH BUTTON, TACTILE, THD, SPST, RIGHT; MANF: Apem; PARAM: 50mA/12VDC; DESC: DESCRIPTION; MANF_P#: MJTP1236A, MJTP1236BV0; VALUE: PUSHBUTTON; ASSEMBLY: ASSEMBLY; PRICE: 0.3$
footprint SWPBT_SPST_R_6X6X4 (SWITCH, PUSHBUTTON, THD, SPST, 6X6X3.85 mm; 1,000,000 cycles ; 0.98N Force, SKHHLMA010)
pins: 1, 2, MH1, MH2

## SWSLIDT_SPDT_S_8X4
designator SW?, comment SlideSwitch  (value not drawn)
SWITCH, SLIDE, SPDT, 8.6X4.3mm, THD; MANF_PART#: OS102011MS2QN1; MANF: C&K; DESC: DESCRIPTION; VALUE: SlideSwitch; ASSEMBLY: ASSEMBLY; PARAM: PARAM; PRICE: 0.4$
footprint SWSLIDT_SPDT_S_8X4 (Switch, Slide, SPDT, Straight, THD, 8.6X4.3mm)
pins: 1 P1, 2 P3, 3 P4

## Test Point
designator TP?
footprint TP50D30 (TEST POINT 0.5mm WITH 0.3 mm Hole Diameter)
footprint TP60D40 (TEST POINT 0.6mm WITH 0.4 mm Hole Diameter)
footprint TP80D30 (TEST POINT 0.8mm WITH 0.3 mm Hole Diameter)
footprint TP80D50
footprint TP100D50
footprint TP150D80 (TEST POINT 1.5mm WITH 0.8 mm Hole Diameter)
footprint TPSMD_C1 (Test Point, SMD Pad, Circle, 1mm X 1mm)
footprint TPSMD_C60 (Test Point, SMD Pad, Circle, 0.6mm X 0.6mm)
footprint TPSMD_C80 (Test Point, SMD Pad, Circle, 0.8mm X 0.8mm)
footprint TPSMD_C120 (Test Point, SMD Pad, Circle, 1.2mm X1.2mm)
footprint TPSMD_S1 (Test Point, SMD Pad, Circle, 1mm X 1mm)
footprint TPSMD_S140 (Test Point, SMD Pad, Square, 1.4mm X1.4mm)
footprint TPTHD_A (TEST POINT, SMALLEST SIZE)
footprint TPTHD_B_GRN (TEST POINT KEYSTONE 2.5mm WITH 1 mm Hole Diameter)
footprint TPTHD_B_WHT (TEST POINT KEYSTONE 2.5mm WITH 1 mm Hole Diameter)
footprint TPTHD_C_BLK1 (Thru-hole test point loop)
footprint TPTHD_C_BLK2 (Thru-hole test point loop)
pins: 1 TP

## TMP_TMP36GRT_SOT23
designator U?, comment TMP36GRT
SENSOR, TEMP, ANALOG, 10~125oC, VCC2.7~5.5v, Out 0mV + 10mV/oC; MANF_P#: TMP35GRTZ; MANF: ANALOG DEVICE; ALT: TMP35/36/37; PARAM2: VCC2.7~5.5v; PARAM: 10~125oC; VALUE: TMP36GRT
footprint SOT23_5 (SOT-23-5, SOT25, SOT-25, DBV(R-PDSO-G5), TSOT23-5, SC-74A, SOT23-5, S5-T (LINEAR), MO-178AA, MO-193AB(JEDEC), MF05A (NS), TSOP-6(ON), UJ-5 (AD))
pins: 1 O, 2 V, 3 NC, 4 SHDN#, 5 G

## VREG_78L05_SO8
designator U?, comment LM78L05ACM
REG, Linear, Fixed, 5v, 0.1A, SO-8; MANF_P#: LM78L05ACM, LM78L05AIM, UA78L05ACDR, UA78L05CDR, UA78L05AIDR, L78L05ABD, AP78L05SG, MC78L05ABD, MC78L05ACD, NCV78L05ABDG, TS78L05CS; MANF: TI, ST, FAIRCHILD, ON, TS; PARAM: 5v, 0.1A; PARAM2: PARAM2; VALUE: LM78L05ACM
footprint SO_8
pins: 1 VO, 2 G1, 3 G2, 4 NC1, 5 NC2, 6 G3, 7 G4, 8 VIN

## VREG_78L05_SOT23
designator U?, comment TS78L05CXRF
REG, Linear, Fixed, 5v, 0.1A, SOT-23; MANF: TS; PARAM: 12v, 0.1A; MANF_P#: TS78L05CXRF; PARAM2: PARAM2; VALUE: TS78L05CXRF
footprint SOT23_3 (SOT-23, Micro3, MO-178, TO-236AB, MO-193C, SuperSOT3, SC-59, DSO190_3_300X150)
pins: 1 VO, 2 VIN, 3 GND

## VREG_78L05_SOT89
designator U?, comment L78L05A
REG, Linear, Fixed, 5v, 0.1A, SOT-89; MANF_P#: L78L05ABUTR, L78L05ACUTR, MC78L05ACH; MANF: ST, FAIRCHILD; PARAM: 5v, 0.1A; PARAM2: PARAM2; VALUE: L78L05A
footprint SOT89_3 (SOT89, SOT-89, SBF-4089, SOT89A, GALI, SC-62, DF782, TO-243AA(JEDEC))
pins: 1 VO, 2 GND, 3 VIN

## VREG_78L06_SO8
designator U?, comment L78L06ACD
REG, Linear, Fixed, 6v, 0.1A, SO-8; MANF: ST; MANF_P#: L78L06ACD; PARAM: 6v, 0.1A; PARAM2: PARAM2; VALUE: L78L06ACD
footprint SO_8
pins: 1 VO, 2 G1, 3 G2, 4 NC1, 5 NC2, 6 G3, 7 G4, 8 VIN

## VREG_78L06_SOT89
designator U?, comment L78L06A
REG, Linear, Fixed, 6v, 0.1A, SOT-89; MANF_P#: UA78L06ACPK, L78L06ACUTR, L78L06ABUTR, NJM78L06UA; MANF: TI, ST, NJR; PARAM: 6v, 0.1A; PARAM2: PARAM2; VALUE: L78L06A
footprint SOT89_3 (SOT89, SOT-89, SBF-4089, SOT89A, GALI, SC-62, DF782, TO-243AA(JEDEC))
pins: 1 VO, 2 GND, 3 VIN

## VREG_78L08_SO8
designator U?, comment 78L08
REG, Linear, Fixed, 8v, 0.1A, SO-8; MANF_P#: UA78L08ACD, L78L08ABD, L78L08ACD, MC78L08ABD, MC78L08ACD, NCV78L08ABD; MANF: TI, ST, ON; PARAM: 8v, 0.1A; PARAM2: PARAM2; VALUE: 78L08
footprint SO_8
pins: 1 VO, 2 G1, 3 G2, 4 NC1, 5 NC2, 6 G3, 7 G4, 8 VIN

## VREG_78L08_SOT89
designator U?, comment L78L08ABUTR
REG, Linear, Fixed, 8v, 0.1A, SOT-89; MANF_P#: UA78L08ACPK, L78L08ABUTR, KA78L08AMTF, KA78L08AMTF, MC78L08ACHX, AP78L08YG, NJM78L08UA; MANF: TI, ST, FAIRCHILD, DIODES, NJR; PARAM: 8v, 0.1A; PARAM2: PARAM2; VALUE: L78L08ABUTR
footprint SOT89_3 (SOT89, SOT-89, SBF-4089, SOT89A, GALI, SC-62, DF782, TO-243AA(JEDEC))
pins: 1 VO, 2 GND, 3 VIN

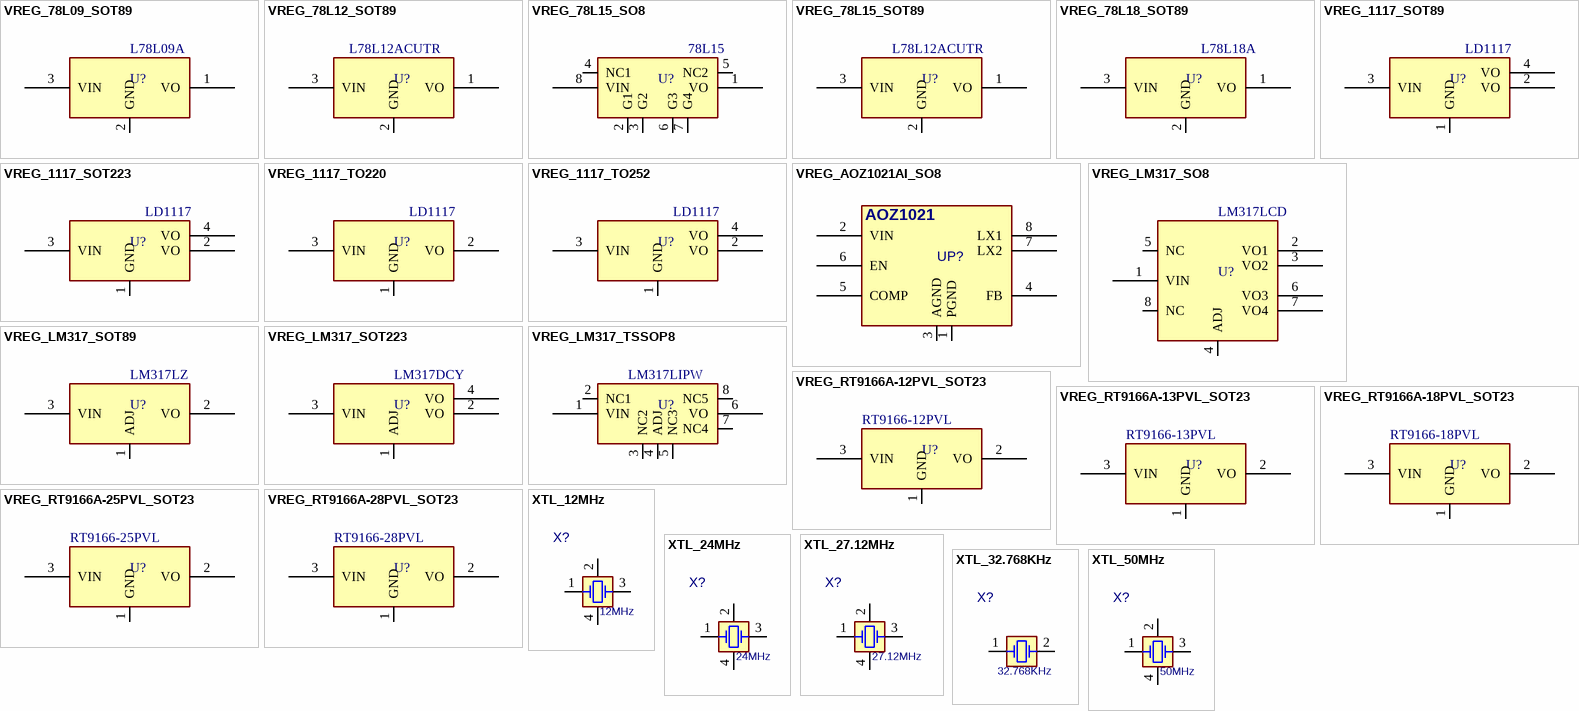
[diagram p14: symbols VREG_78L09_SOT89 to XTL_50MHz]

## VREG_78L09_SOT89
designator U?, comment L78L09A
REG, Linear, Fixed, 9v, 0.1A, SOT-89; MANF_P#: L78L09ACUTR; MANF: ST; PARAM: 9v, 0.1A; PARAM2: PARAM2; VALUE: L78L09A
footprint SOT89_3 (SOT89, SOT-89, SBF-4089, SOT89A, GALI, SC-62, DF782, TO-243AA(JEDEC))
pins: 1 VO, 2 GND, 3 VIN

## VREG_78L12_SOT89
designator U?, comment L78L12ACUTR
REG, Linear, Fixed, 12v, 0.1A, SOT-89; MANF_P#: UA78L12ACPK, L78L12ACUTR; MANF: TI, ST; PARAM: 12v, 0.1A; PARAM2: PARAM2; VALUE: L78L12ACUTR
footprint SOT89_3 (SOT89, SOT-89, SBF-4089, SOT89A, GALI, SC-62, DF782, TO-243AA(JEDEC))
pins: 1 VO, 2 GND, 3 VIN

## VREG_78L15_SO8
designator U?, comment 78L15
REG, Linear, Fixed, 15v, 0.1A, SO-8; MANF_P#: LM78L15ACM; MANF: TI; PARAM: 15v, 0.1A; PARAM2: PARAM2; VALUE: 78L15
footprint SO_8
pins: 1 VO, 2 G1, 3 G2, 4 NC1, 5 NC2, 6 G3, 7 G4, 8 VIN

## VREG_78L15_SOT89
designator U?, comment L78L12ACUTR
REG, Linear, Fixed, 15v, 0.1A, SOT-89; MANF_P#: UA78L15ACPK, L78L15ACUTR; MANF: TI, ST; PARAM: 15v, 0.1A; PARAM2: PARAM2; VALUE: L78L12ACUTR
footprint SOT89_3 (SOT89, SOT-89, SBF-4089, SOT89A, GALI, SC-62, DF782, TO-243AA(JEDEC))
pins: 1 VO, 2 GND, 3 VIN

## VREG_78L18_SOT89
designator U?, comment L78L18A
REG, Linear, Fixed, 18v, 0.1A, SOT-89; MANF_P#: L78L18ACUTR; MANF: ST; PARAM: 18v, 0.1A; PARAM2: PARAM2; VALUE: L78L18A
footprint SOT89_3 (SOT89, SOT-89, SBF-4089, SOT89A, GALI, SC-62, DF782, TO-243AA(JEDEC))
pins: 1 VO, 2 GND, 3 VIN

## VREG_1117_SOT89
designator U?, comment LD1117
REG, Linear, LDO1V, 0.8A, SOT-89; MANF_P#: AZ1117; MANF: DIODES; PARAM2: 1.2/1.5/1.8/2.5/2.85/3.3/5V; PARAM: LDO1V, 0.8A; VALUE: LD1117
footprint SOT89_3 (SOT89, SOT-89, SBF-4089, SOT89A, GALI, SC-62, DF782, TO-243AA(JEDEC))
pins: 1 GND, 2 VO, 3 VIN, 4 VO

## VREG_1117_SOT223
designator U?, comment LD1117
REG, Linear, LDO1V, 0.8A, SOT-223; MANF_P#: LD1117, LM1117, AMS1117, TLV1117, REG1117, NCP1117, LT1117, SPX1117; MANF: TI, ON, ST; PARAM2: 1.2/1.5/1.8/2.5/2.85/3.3/5V; PARAM: LDO1V, 0.8A; VALUE: LD1117
footprint SOT223_4 (SOT223, 4-Leads, Body 6.5x3.5mm, Pitch 2.30mm)
pins: 1 GND, 2 VO, 3 VIN, 4 VO

## VREG_1117_TO220
designator U?, comment LD1117
REG, Linear, LDO1V, 0.8A, TO-220; MANF_P#: LM1117T-2.5/NOPB; MANF: TI; PARAM2: 2.5V; PARAM: LDO1V, 0.8A; PRICE: 1.5$; VALUE: LD1117
footprint TO220_3 (TO-220 3 LEAD, TO-262, pitch: 2.54mm  10x4.5mm)
pins: 1 GND, 2 VO, 3 VIN

## VREG_1117_TO252
designator U?, comment LD1117
REG, Linear, LDO1V, 0.8A, TO-252; MANF_P#: LM1117, LD1117, NCV1117; MANF: TI, ON, ST; PARAM2: 1.2/1.5/1.8/2.5/2.85/3.3/5V; PARAM: LDO1V, 0.8A; VALUE: LD1117
footprint DPAK_3 (D-PAK (TO-252), 3-Pads, Body 6.2x6.7mm)
pins: 1 GND, 2 VO, 3 VIN, 4 VO

## VREG_AOZ1021AI_SO8
designator UP?, comment AOZ1021AI  (value not drawn)
REG, Switching, Buck, 3A, ADJ, 500KHz, 4.5~16VIN, SO-8; MANF: AOSMD; PARAM: 3A, ADJ; ASSEMBLY: ASSEMBLY; PRICE: 1.33$, 1800t@PAYA; PARAM2: 500KHz, 4.5~16VIN; MANF_P#: AOZ1021AI; VALUE: AOZ1021AI
footprint SO_8
pins: 1 PGND (power), 2 VIN (power), 3 AGND (power), 4 FB, 5 COMP, 6 EN, 7 LX2, 8 LX1
text: AOZ1021

## VREG_LM317_SO8
designator U?, comment LM317LCD
REG, Linear, Adjustable, 0.1A, SO-8; MANF_P#: LM317LCDR, LM317LD13TR, LM317LMX, LM317LBDG; MANF: TI, ST, ON; PARAM: 0.1A; PARAM2: PARAM2; VALUE: LM317LCD
footprint SO_8
pins: 1 VIN, 2 VO1, 3 VO2, 4 ADJ, 5 NC, 6 VO3, 7 VO4, 8 NC

## VREG_LM317_SOT89
designator U?, comment LM317LZ
REG, Linear, Adjustable, 0.1A, SOT-89; MANF_P#: LM317LIPK, LM317LCPK; MANF: TI; PARAM: 0.1A; PARAM2: PARAM2; VALUE: LM317LZ
footprint SOT89_3 (SOT89, SOT-89, SBF-4089, SOT89A, GALI, SC-62, DF782, TO-243AA(JEDEC))
pins: 1 ADJ, 2 VO, 3 VIN

## VREG_LM317_SOT223
designator U?, comment LM317DCY
REG, Linear, Adjustable, 0.5A, SOT-223; MANF_P#: LM317DCY, LM317MBSTT3G; MANF: TI, ON; PARAM: 0.5A; PARAM2: PARAM2; VALUE: LM317DCY
footprint SOT223_4 (SOT223, 4-Leads, Body 6.5x3.5mm, Pitch 2.30mm)
pins: 1 ADJ, 2 VO, 3 VIN, 4 VO

## VREG_LM317_TSSOP8
designator U?, comment LM317LIPW
REG, Linear, Adjustable, 0.1A, TSSOP-8; MANF_P#: LM317LIPWR, LM317LCPWR; MANF: TI; PARAM: 0.1A; PARAM2: PARAM2; VALUE: LM317LIPW
footprint SOG65_8 (PW TSSOP (TI), MO-153 (JEDEC), 8Lead, pitch: 0.65mm, 3x4.4x1.2mm)
pins: 1 VIN, 2 NC1, 3 NC2, 4 ADJ, 5 NC3, 6 VO, 7 NC4, 8 NC5

## VREG_RT9166A-12PVL_SOT23
designator U?, comment RT9166-12PVL
REG, Linear, Fixed, 1.2v, 0.3A/0.6A, SOT23; MANF: TI; PARAM: 1.2V, 0.3mA/06mA; MANF_P#: RT9166-12PVL; PARAM2: 1.2V; VALUE: RT9166-12PVL
footprint SOT23_3 (SOT-23, Micro3, MO-178, TO-236AB, MO-193C, SuperSOT3, SC-59, 1.9mm pitch 3X1.5mm body)
pins: 1 GND, 2 VO, 3 VIN

## VREG_RT9166A-13PVL_SOT23
designator U?, comment RT9166-13PVL
REG, Linear, Fixed, 1.3v, 0.3A/0.6A, SOT23; MANF: TI; PARAM: 1.3V, 0.3mA/06mA; MANF_P#: RT9166-13PVL; PARAM2: 1.3V; VALUE: RT9166-13PVL
footprint SOT23_3 (SOT-23, Micro3, MO-178, TO-236AB, MO-193C, SuperSOT3, SC-59, 1.9mm pitch 3X1.5mm body)
pins: 1 GND, 2 VO, 3 VIN

## VREG_RT9166A-18PVL_SOT23
designator U?, comment RT9166-18PVL
REG, Linear, Fixed, 1.8v, 0.3A/0.6A, SOT23; MANF: TI; PARAM: 1.8V, 0.3mA/06mA; MANF_P#: RT9166-18PVL; PARAM2: 1.8V; VALUE: RT9166-18PVL
footprint SOT23_3 (SOT-23, Micro3, MO-178, TO-236AB, MO-193C, SuperSOT3, SC-59, 1.9mm pitch 3X1.5mm body)
pins: 1 GND, 2 VO, 3 VIN

## VREG_RT9166A-25PVL_SOT23
designator U?, comment RT9166-25PVL
REG, Linear, Fixed, 2.5v, 0.3A/0.6A, SOT23; MANF: TI; PARAM: 2.5V, 0.3mA/06mA; MANF_P#: RT9166-25PVL; PARAM2: 2.5V; VALUE: RT9166-25PVL
footprint SOT23_3 (SOT-23, Micro3, MO-178, TO-236AB, MO-193C, SuperSOT3, SC-59, 1.9mm pitch 3X1.5mm body)
pins: 1 GND, 2 VO, 3 VIN

## VREG_RT9166A-28PVL_SOT23
designator U?, comment RT9166-28PVL
REG, Linear, Fixed, 2.8v, 0.3A/0.6A, SOT23; MANF: TI; PARAM: 2.8V, 0.3mA/06mA; MANF_P#: RT9166-28PVL; PARAM2: 2.8V; VALUE: RT9166-28PVL
footprint SOT23_3 (SOT-23, Micro3, MO-178, TO-236AB, MO-193C, SuperSOT3, SC-59, 1.9mm pitch 3X1.5mm body)
pins: 1 GND, 2 VO, 3 VIN

## XTL_12MHz
designator X?, comment 12MHz
12MHz SMT 5x3.2 ABM3-12.000MHz; MANF: DIODES; PARAM: 10PPM, -30~85oC; DESC: X1E000021036701; DIST#: MOUSER; PARAM2: 7pF, 40OhmESR; MANF_P#: FL400WFQA1; ASSEMBLY: ASSEMBLY; PRICE: 0.7$; VALUE: 12MHz
footprint XTL_2_5032 (ABM3)
pins: 1, 2, 3, 4

## XTL_24MHz
designator X?, comment 24MHz
24MHz SMT 5x3.2 ASFLMB-24.000MHz; MANF: DIODES; PARAM: 10PPM, -30~85oC; DESC: X1E000021036701; DIST#: MOUSER; PARAM2: 7pF, 40OhmESR; MANF_P#: FL400WFQA1; ASSEMBLY: ASSEMBLY; PRICE: 0.7$; VALUE: 24MHz
footprint XTL_4_5032 (ASFLMB, CDFN-4)
pins: 1, 2, 3, 4

## XTL_27.12MHz
designator X?, comment 27.12MHz
27.12MHz SMT 5x3.2 ABM3B-27.12MHz; MANF: DIODES; PARAM: 10PPM, -30~85oC; DESC: X1E000021036701; DIST#: MOUSER; PARAM2: 7pF, 40OhmESR; MANF_P#: FL400WFQA1; ASSEMBLY: ASSEMBLY; PRICE: 0.7$; VALUE: 27.12MHz
footprint XTL_4_5032 (ASFLMB, CDFN-4)
pins: 1, 2, 3, 4

## XTL_32.768KHz
designator X?, comment 32.768KHz
32.768KHz SMT 3.2x1.5 FC-135R; MANF: DIODES; PARAM: 10PPM, -30~85oC; DESC: X1E000021036701; DIST#: MOUSER; PARAM2: 7pF, 40OhmESR; MANF_P#: FL400WFQA1; ASSEMBLY: ASSEMBLY; PRICE: 0.7$; VALUE: 32.768KHz
footprint XTL_2_3215 (ABS07 3.2x1.5mm)
pins: 1, 2

## XTL_50MHz
designator X?, comment 50MHz
50MHz SMT 5x7 LFSPXO018044; MANF: DIODES; PARAM: 10PPM, -30~85oC; DESC: X1E000021036701; DIST#: MOUSER; PARAM2: 7pF, 40OhmESR; MANF_P#: FL400WFQA1; ASSEMBLY: ASSEMBLY; PRICE: 0.7$; VALUE: 50MHz
footprint XTL_4_7050 (DFN-4, 7x5mm)
pins: 1, 2, 3, 4